# Altium schematic symbol library ECS-8FMX-035-TR.SchLib: 1 symbol
Pins are listed as number, name and electrical type; pins without a type are passive.

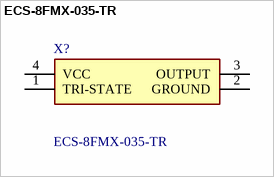
[diagram p0: symbol ECS-8FMX-035-TR]

## ECS-8FMX-035-TR
designator X?
Standard Clock Oscillators 3.579545MHz 5Volts -40C +85C; Manufacturer_Name: ECS; Geometry.Height: 4.7mm; Mouser Part Number: 520-ECS-8FMX035-TR; Mouser Price/Stock: https://www.mouser.co.uk/ProductDetail/ECS/ECS-8FMX-035-TR?qs=GxOUx7aO6nwWL8kP7pjkSQ%3D%3D; Manufacturer_Part_Number: ECS-8FMX-035-TR; Datasheet Link: https://ecsxtal.com/store/pdf/ecs-8fx.pdf
footprint ECS8FMX035TR
pins: 1 TRI-STATE, 2 GROUND, 3 OUTPUT, 4 VCC